# Altium footprint library TSOP36XXXTR.PcbLib: 1 footprints
Each footprint in its own frame and in the unit in brackets; x right, y up, seen from the top. Pads: shape width x height; smd on the part's side, far side on the other; paste and mask are expansions set on the pad; w line width, h text height; cw(c..) or ccw(c..) is an arc to the next point about the centre after c.
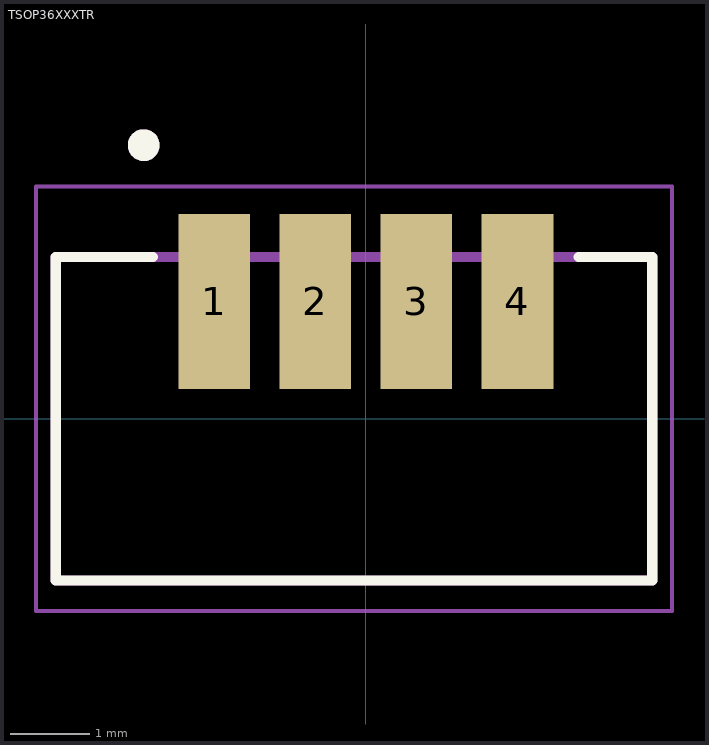
[diagram p0: the footprint, top view; thin cyan lines are the x and y axes]

## TSOP36XXXTR [mm]
pads (4):
  rect 0.9x2.2 smd: 1(-1.905,1.476) 2(-0.635,1.476) 3(0.635,1.476) 4(1.905,1.476)
Top Overlay:
  circle w0.2: c-2.794,3.44 r0.1
  lines w0.127: -2.675,2.032 -3.9,2.032 -3.9,-2.032 3.6,-2.032 3.6,2.032 2.675,2.032
Top 3D Body:
  circle w0.2: c-2.794,3.44 r0.1
  lines w0.127: -3.9,-2.032 3.6,-2.032 3.6,2.032 -3.9,2.032 -3.9,-2.032
Top Courtyard:
  lines w0.05: -4.15,-2.413 3.85,-2.413 3.85,2.921 -4.15,2.921 -4.15,-2.413
3D body "step_temp.STEP": height 5.35, standoff 0.05, extent -3.877,-2.032 3.623,1.968